# EAGLE library part ARDUINOR3 (library soofa_library)
This is a new object for the new Arduino R3 - with extra pins that you may want to use (such as IOref, and duplicated A4/A5
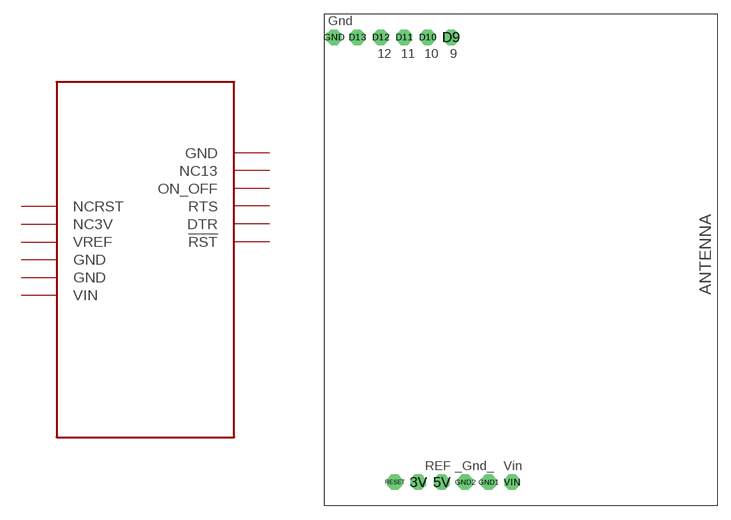
[diagram p3: symbol with the pads of ARDUINOR3; footprint ARDUINOR3]

Designator prefix U

## ARDUINOR3-DIMENSION  [ARDUINOR3]
3V  NC3V  nc
5V  VREF  pwr
D9  !RST
D10  DTR
D11  RTS
D12  ON_OFF
D13  NC13  nc
GND  GND  pwr
GND1  GND  pwr
GND2  GND  pwr
RESET  NCRST  nc
VIN  VIN  pwr

## Footprint ARDUINOR3 (pad centres in mm)
The new Arduino R3 'classic' adds duplicate I2C pins and an IORef pin (and an unused pin
drill 1 pad 1.676 octagon: 3V -6.35,-25.4; 5V -3.81,-25.4; D9 -2.794,22.86; D10 -5.334,22.86; D11 -7.874,22.86; D12 -10.414,22.86; D13 -12.954,22.86; GND -15.494,22.86; GND1 1.27,-25.4; GND2 -1.27,-25.4; RESET -8.89,-25.4; VIN 3.81,-25.4